# Altium schematic symbol library cSLIM-SA.SchLib: 21 symbols
Pins are listed as number, name and electrical type; pins without a type are passive.

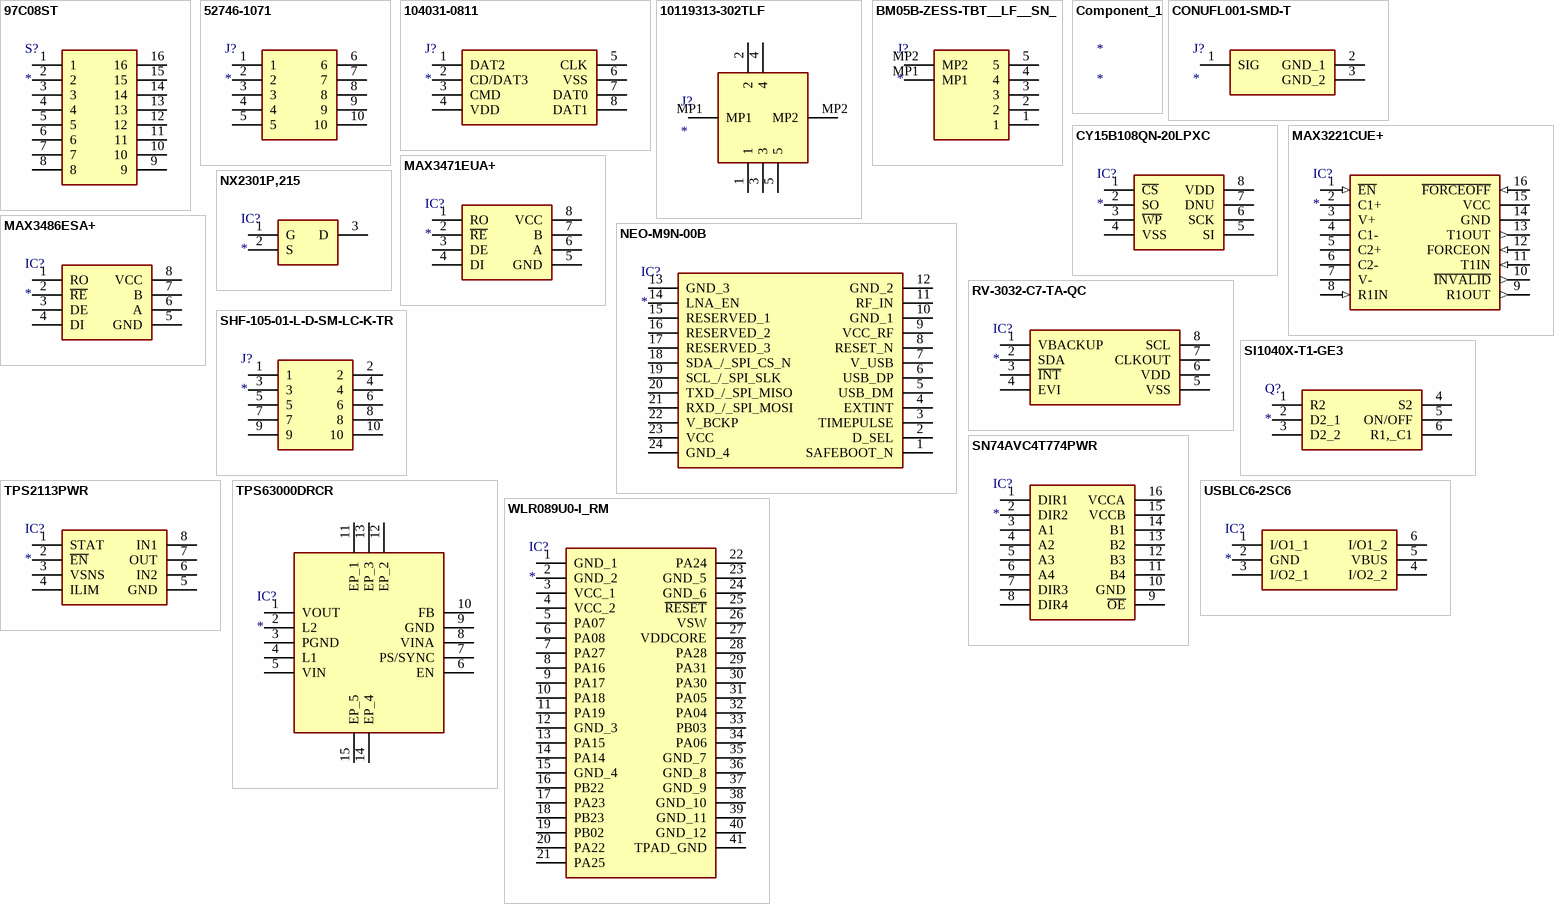
[diagram p0: symbols 97C08ST to WLR089U0-I_RM]

## 97C08ST
designator S?
Switch; Manufacturer_Name: Grayhill; Manufacturer_Part_Number: 97C08ST; Datasheet Link: http://www.grayhill.com/search/?Keywords=97C08ST; Height: 1.7mm; Mouser Part Number: 706-97C08ST; Mouser Price/Stock: https://www.mouser.co.uk/ProductDetail/Grayhill/97C08ST?qs=ls7QRyWmRk6QAl4Hs3wGtw%3D%3D; Arrow Part Number: 97C08ST; Arrow Price/Stock: https://www.arrow.com/en/products/97c08st/grayhill
footprint SOIC127P671X170-16N
pins: 1, 2, 3, 4, 5, 6, 7, 8, 9, 10, 11, 12, 13, 14, 15, 16

## 52746-1071
designator J?
Connector; Manufacturer_Name: Molex; Manufacturer_Part_Number: 52746-1071; Description: 0.5 FPC ZIF Housing Assembly RA 10w Molex FFC/FPC SMT Series 0.5mm Pitch 10 Way 1 Row Right Angle SMT Female FPC Connector; Datasheet Link: http://www.molex.com/pdm_docs/sd/527461071_sd.pdf; Mouser Part Number: 538-52746-1071; Mouser Price/Stock: https://www.mouser.co.uk/ProductDetail/Molex/52746-1071?qs=gi08C7HaimYPHJccIEZoxg%3D%3D
footprint 52746-1071
pins: 1, 2, 3, 4, 5, 6, 7, 8, 9, 10

## 104031-0811
designator J?
Connector; Manufacturer_Name: Molex; Manufacturer_Part_Number: 104031-0811; Datasheet Link: http://www.molex.com/webdocs/datasheets/pdf/en-us/1040310811_MEMORY_CARD_SOCKET.pdf; Mouser Part Number: 538-104031-0811; Mouser Price/Stock: https://www.mouser.co.uk/ProductDetail/Molex/104031-0811?qs=udsGRKD4nA3Tvy7wqky%252BuA%3D%3D
footprint 1040310811
pins: 1 DAT2, 2 CD/DAT3, 3 CMD, 4 VDD, 5 CLK, 6 VSS, 7 DAT0, 8 DAT1

## 10119313-302TLF
designator J?
Connector; Manufacturer_Name: Amphenol; Manufacturer_Part_Number: 10119313-302TLF; Datasheet Link: https://www.arrow.com/en/products/10119313-302tlf/amphenol-fci; Height: 9.55mm; Mouser Part Number: 649-10119313-302TLF; Mouser Price/Stock: https://www.mouser.co.uk/ProductDetail/Amphenol-FCI/10119313-302TLF?qs=QcFhgjUTvvpTzLjwlVEXAA%3D%3D; Arrow Part Number: 10119313-302TLF; Arrow Price/Stock: https://www.arrow.com/en/products/10119313-302tlf/amphenol-fci
footprint 10119313302TLF
pins: 1, 2, 3, 4, 5, MP1, MP2

## BM05B-ZESS-TBT__LF__SN_
designator J?
Connector; Manufacturer_Name: JST (JAPAN SOLDERLESS TERMINALS); Manufacturer_Part_Number: BM05B-ZESS-TBT (LF)(SN); Datasheet Link: https://www.arrow.com/en/products/bm05b-zess-tbt-lf-sn/jst-manufacturing; Height: 7.5mm; Arrow Part Number: BM05B-ZESS-TBT (LF)(SN); Arrow Price/Stock: https://www.arrow.com/en/products/bm05b-zess-tbt-lf-sn/jst-manufacturing
footprint BM05BZESSTBTLFSN
pins: 1, 2, 3, 4, 5, MP1, MP2

## Component_1
designator *

## CONUFL001-SMD-T
designator J?
Connector; Manufacturer_Name: Linx Technologies; Manufacturer_Part_Number: CONUFL001-SMD-T; Datasheet Link: https://linxtechnologies.com/wp/product/mhf-rf-connectors/; Mouser Part Number: 712-CONUFL001-SMD-T; Mouser Price/Stock: https://www.mouser.co.uk/ProductDetail/Linx-Technologies/CONUFL001-SMD-T?qs=EU6FO9ffTwfRdkBeQTdJWQ%3D%3D
footprint CONUFL001-SMD
pins: 1 SIG, 2 GND_1, 3 GND_2

## CY15B108QN-20LPXC
designator IC?
Integrated Circuit; Manufacturer_Part_Number: CY15B108QN-20LPXC; Description: Cypress Semiconductor; Datasheet Link: https://www.arrow.com/en/products/cy15b108qn-20lpxc/cypress-semiconductor; Height: 0.55mm; Manufacturer_Name: Cypress Semiconductor; Mouser Part Number: 727-CY15B108QN20LPXC; Mouser Price/Stock: https://www.mouser.co.uk/ProductDetail/Cypress-Semiconductor/CY15B108QN-20LPXC?qs=P1JMDcb91o5srFPNWUxrEA%3D%3D; Arrow Part Number: CY15B108QN-20LPXC; Arrow Price/Stock: https://www.arrow.com/en/products/cy15b108qn-20lpxc/cypress-semiconductor?region=nac
footprint SON65P323X328X55-8N
pins: 1 ~{CS}, 2 SO, 3 ~{WP}, 4 VSS, 5 SI, 6 SCK, 7 DNU, 8 VDD

## MAX3221CUE+
designator IC?
Integrated Circuit; Manufacturer_Name: Maxim Integrated; Manufacturer_Part_Number: MAX3221CUE+; Datasheet Link: http://datasheets.maximintegrated.com/en/ds/MAX3221-MAX3243.pdf; Height: 1.1mm; Mouser Part Number: 700-MAX3221CUE; Mouser Price/Stock: https://www.mouser.co.uk/ProductDetail/Maxim-Integrated/MAX3221CUE%2b?qs=1THa7WoU59EZwCeWs5OtSQ%3D%3D
footprint SOP65P640X110-16N
pins: 1 ~{EN} (in), 2 C1+, 3 V+ (power), 4 C1-, 5 C2+, 6 C2-, 7 V- (power), 8 R1IN (in), 9 R1OUT (out), 10 ~{INVALID} (out), 11 T1IN (in), 12 FORCEON (in), 13 T1OUT (out), 14 GND (power), 15 VCC (power), 16 ~{FORCEOFF} (in)

## MAX3471EUA+
designator IC?
Integrated Circuit; Manufacturer_Name: Maxim Integrated; Manufacturer_Part_Number: MAX3471EUA+; Datasheet Link: http://docs-emea.rs-online.com/webdocs/0f71/0900766b80f719c9.pdf; Height: 1.1mm; Mouser Part Number: 700-MAX3471EUA; Mouser Price/Stock: https://www.mouser.co.uk/ProductDetail/Maxim-Integrated/MAX3471EUA%2b?qs=1THa7WoU59GPWTW%252BBV1kJA%3D%3D
footprint SOP65P490X110-8N
pins: 1 RO, 2 ~{RE}, 3 DE, 4 DI, 5 GND, 6 A, 7 B, 8 VCC

## MAX3486ESA+
designator IC?
Integrated Circuit; Manufacturer_Name: Maxim Integrated; Manufacturer_Part_Number: MAX3486ESA+; Datasheet Link: http://datasheets.maximintegrated.com/en/ds/MAX3483-MAX3491.pdf; Height: 1.75mm; Mouser Part Number: 700-MAX3486ESA; Mouser Price/Stock: https://www.mouser.co.uk/ProductDetail/Maxim-Integrated/MAX3486ESA%2b?qs=1THa7WoU59FIrgcgBLF9fg%3D%3D
footprint SOIC127P600X175-8N
pins: 1 RO, 2 ~{RE}, 3 DE, 4 DI, 5 GND, 6 A, 7 B, 8 VCC

## NEO-M9N-00B
designator IC?
Integrated Circuit; Manufacturer_Name: U-Blox; Manufacturer_Part_Number: NEO-M9N-00B; Description: M9 standard precision module; Datasheet Link: https://www.u-blox.com/sites/default/files/NEO-M9N_DataSheet_%28UBX-19014285%29.pdf; Height: 2.6mm; Mouser Part Number: 377-NEO-M9N-00B; Mouser Price/Stock: https://www.mouser.co.uk/ProductDetail/u-blox/NEO-M9N-00B?qs=DPoM0jnrROVeJ6BHpcwcjw%3D%3D
footprint NEOM9N00B
pins: 1 SAFEBOOT_N, 2 D_SEL, 3 TIMEPULSE, 4 EXTINT, 5 USB_DM, 6 USB_DP, 7 V_USB, 8 RESET_N, 9 VCC_RF, 10 GND_1, 11 RF_IN, 12 GND_2, 13 GND_3, 14 LNA_EN, 15 RESERVED_1, 16 RESERVED_2, 17 RESERVED_3, 18 SDA_/_SPI_CS_N, 19 SCL_/_SPI_SLK, 20 TXD_/_SPI_MISO, 21 RXD_/_SPI_MOSI, 22 V_BCKP, 23 VCC, 24 GND_4

## NX2301P,215
designator IC?
Integrated Circuit; Manufacturer_Name: Nexperia; Manufacturer_Part_Number: NX2301P,215; Datasheet Link: http://www.nxp.com/documents/data_sheet/NX2301P.pdf; Height: 1.1mm; Mouser Part Number: 771-NX2301P215; Mouser Price/Stock: https://www.mouser.co.uk/ProductDetail/Nexperia/NX2301P215?qs=A1cBxND5mHKs%252BLrxCDENxw%3D%3D; Arrow Part Number: NX2301P,215; Arrow Price/Stock: https://www.arrow.com/en/products/nx2301p215/nexperia
footprint SOT95P230X110-3N
pins: 1 G, 2 S, 3 D

## RV-3032-C7-TA-QC
designator IC?
Integrated Circuit; Manufacturer_Name: Micro Crystal AG; Manufacturer_Part_Number: RV-3032-C7-TA-QC; Description: RV-3032-C7; Datasheet Link: https://www.microcrystal.com/fileadmin/Media/Products/RTC/Datasheet/RV-3032-C7.pdf; Height: 0.8mm
footprint RV3032C7TAQA
pins: 1 VBACKUP, 2 SDA, 3 ~{INT}, 4 EVI, 5 VSS, 6 VDD, 7 CLKOUT, 8 SCL

## SHF-105-01-L-D-SM-LC-K-TR
designator J?
Connector; Manufacturer_Name: Samtech; Manufacturer_Part_Number: SHF-105-01-L-D-SM-LC-K-TR; Datasheet Link: https://suddendocs.samtec.com/prints/shf-1xx-01-x-d-xx-xx-xx-mkt.pdf; Height: 5.33mm
footprint SHF10501LDSMLCKTR
pins: 1, 2, 3, 4, 5, 6, 7, 8, 9, 10

## SI1040X-T1-GE3
designator Q?
MOSFET (N-Channel); Manufacturer_Name: Vishay; Manufacturer_Part_Number: SI1040X-T1-GE3; Description: MOSFET -8V Vds V Vgs SC89-6; Datasheet Link: https://www.vishay.com/docs/71809/si1040x.pdf; Height: 0.6mm; Mouser Part Number: 781-SI1040X-T1-GE3; Mouser Price/Stock: https://www.mouser.co.uk/ProductDetail/Vishay-Semiconductors/SI1040X-T1-GE3?qs=tWM4QuTcS4WRJw%2FdSgdX6Q%3D%3D; Arrow Part Number: SI1040X-T1-GE3; Arrow Price/Stock: https://www.arrow.com/en/products/si1040x-t1-ge3/vishay
footprint SOTFL50P160X60-6N
pins: 1 R2, 2 D2_1, 3 D2_2, 4 S2, 5 ON/OFF, 6 R1,_C1

## SN74AVC4T774PWR
designator IC?
Integrated Circuit; Manufacturer_Name: Texas Instruments; Manufacturer_Part_Number: SN74AVC4T774PWR; Description: 4-Bit Dual-Supply Bus Transceiver With Configurable Voltage-Level Shifting and 3-State Outputs; Datasheet Link: http://www.ti.com/lit/gpn/sn74avc4t774; Height: 1.2mm; Mouser Part Number: 595-SN74AVC4T774PWR; Mouser Price/Stock: https://www.mouser.co.uk/ProductDetail/Texas-Instruments/SN74AVC4T774PWR?qs=WxL8HmPi5r562Eu%2F2kE2LA%3D%3D; Arrow Part Number: SN74AVC4T774PWR; Arrow Price/Stock: https://www.arrow.com/en/products/sn74avc4t774pwr/texas-instruments?region=nac
footprint SOP65P640X120-16N
pins: 1 DIR1, 2 DIR2, 3 A1, 4 A2, 5 A3, 6 A4, 7 DIR3, 8 DIR4, 9 ~{OE}, 10 GND, 11 B4, 12 B3, 13 B2, 14 B1, 15 VCCB, 16 VCCA

## TPS2113PWR
designator IC?
Integrated Circuit; Manufacturer_Name: Texas Instruments; Manufacturer_Part_Number: TPS2113PWR; Description: Dual In/Single Out Autoswitching Power MUX; Datasheet Link: http://www.ti.com/lit/ds/symlink/tps2113.pdf; Height: 1.2mm; Mouser Part Number: 595-TPS2113PWR; Mouser Price/Stock: https://www.mouser.co.uk/ProductDetail/Texas-Instruments/TPS2113PWR?qs=ojKcPFmCWSUJzuMPtPVtlA%3D%3D; Arrow Part Number: TPS2113PWR; Arrow Price/Stock: https://www.arrow.com/en/products/tps2113pwr/texas-instruments
footprint SOP65P640X120-8N
pins: 1 STAT, 2 ~{EN}, 3 VSNS, 4 ILIM, 5 GND, 6 IN2, 7 OUT, 8 IN1

## TPS63000DRCR
designator IC?
Integrated Circuit; Manufacturer_Name: Texas Instruments; Manufacturer_Part_Number: TPS63000DRCR; Description: Switching Voltage Regulators 96% Buck Boost Converter; Datasheet Link: https://www.ti.com/lit/ds/symlink/tps63000.pdf?HQS=ti-null-null-sf-df-pf-sep-wwe&ts=1593405994673; Height: 1mm; Mouser Part Number: 595-TPS63000DRCR; Mouser Price/Stock: https://www.mouser.co.uk/ProductDetail/Texas-Instruments/TPS63000DRCR?qs=QZuYiDxzHaj%2FxB6t44u%252B6Q%3D%3D; Arrow Part Number: TPS63000DRCR; Arrow Price/Stock: https://www.arrow.com/en/products/tps63000drcr/texas-instruments?region=nac
footprint TPS63002DRCR
pins: 1 VOUT, 2 L2, 3 PGND, 4 L1, 5 VIN, 6 EN, 7 PS/SYNC, 8 VINA, 9 GND, 10 FB, 11 EP_1, 12 EP_2, 13 EP_3, 14 EP_4, 15 EP_5

## USBLC6-2SC6
designator IC?
Integrated Circuit; Manufacturer_Name: STMicroelectronics; Manufacturer_Part_Number: USBLC6-2SC6; Datasheet Link: http://www.st.com/st-web-ui/static/active/en/resource/technical/document/datasheet/CD00050750.pdf; Height: 1.45mm; Mouser Part Number: 511-USBLC6-2SC6; Mouser Price/Stock: https://www.mouser.co.uk/ProductDetail/STMicroelectronics/USBLC6-2SC6?qs=po45yt2pPpu%2FhNIlwQdTlg%3D%3D; Arrow Part Number: USBLC6-2SC6; Arrow Price/Stock: https://www.arrow.com/en/products/usblc6-2sc6/stmicroelectronics?region=nac
footprint SOT95P280X145-6N
pins: 1 I/O1_1, 2 GND, 3 I/O2_1, 4 I/O2_2, 5 VBUS, 6 I/O1_2

## WLR089U0-I_RM
designator IC?
Integrated Circuit; Manufacturer_Name: Microchip; Manufacturer_Part_Number: WLR089U0-I/RM; Datasheet Link: https://ww1.microchip.com/downloads/en/DeviceDoc/WLR089U0-Low-Power-LoRa-Sub-GHz-Module-Data-Sheet-DS70005435A.pdf; Height: 2.8mm; Mouser Part Number: 579-WLR089U0-I/RM; Mouser Price/Stock: https://www.mouser.co.uk/ProductDetail/Microchip-Technology/WLR089U0-I-RM?qs=W%2FMpXkg%252BdQ4sfSMsQUYuNg%3D%3D; Arrow Part Number: WLR089U0-I/RM; Arrow Price/Stock: https://www.arrow.com/en/products/wlr089u0-irm/microchip-technology
footprint WLR089U0IRM
pins: 1 GND_1, 2 GND_2, 3 VCC_1, 4 VCC_2, 5 PA07, 6 PA08, 7 PA27, 8 PA16, 9 PA17, 10 PA18, 11 PA19, 12 GND_3, 13 PA15, 14 PA14, 15 GND_4, 16 PB22, 17 PA23, 18 PB23, 19 PB02, 20 PA22, 21 PA25, 22 PA24, 23 GND_5, 24 GND_6, 25 ~{RESET}, 26 VSW, 27 VDDCORE, 28 PA28, 29 PA31, 30 PA30, 31 PA05, 32 PA04, 33 PB03, 34 PA06, 35 GND_7, 36 GND_8, 37 GND_9, 38 GND_10, 39 GND_11, 40 GND_12, 41 TPAD_GND